# Altium schematic symbol library Connector_clamp_x4.SCHLIB: 1 symbol
Pins are listed as number, name and electrical type; pins without a type are passive.

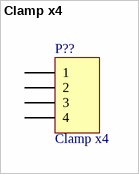
[diagram p0: symbol Clamp x4]

## Clamp x4
designator P??
LatestRevisionDate: 17-Jul-2002; LatestRevisionNote: Re-released for DXP Platform.; Publisher: Altium Limited
footprint Connector Clamp (x4)
pins: 1, 2, 3, 4